# EAGLE library part CD4011 (library RF_LogicIC)
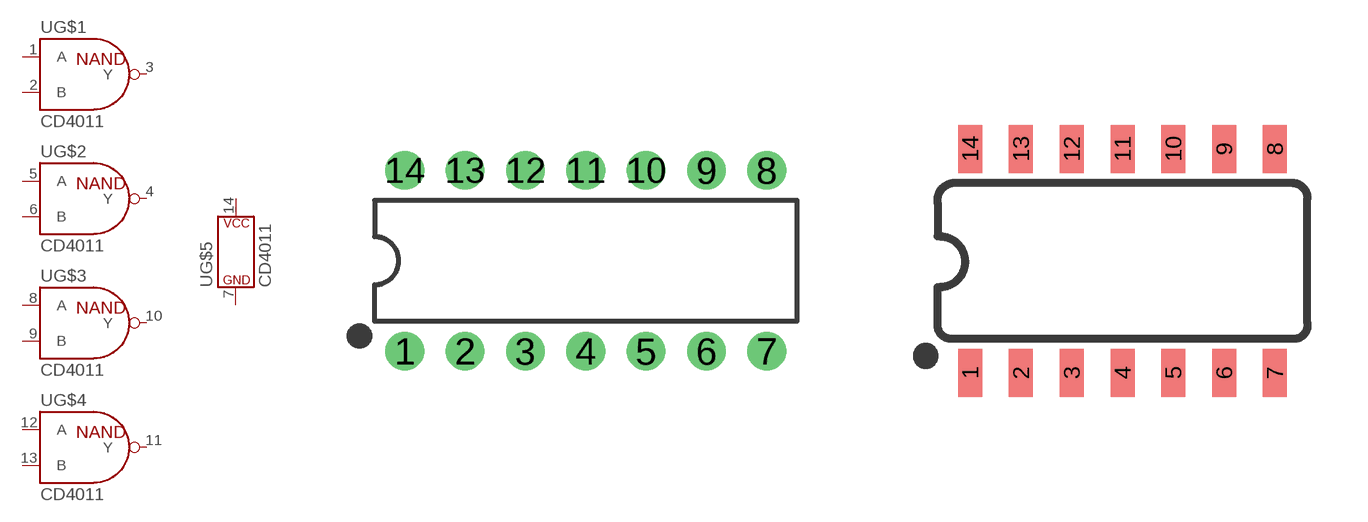
[diagram p2: symbol with the pads of DIP14; footprints DIP14, SO14]

Designator prefix -; gates G$1=GATE_NAND_2 G$2=GATE_NAND_2 G$3=GATE_NAND_2 G$4=GATE_NAND_2 G$5=POWER_CONSORT

## CD4011DIP  [DIP14]
1  G$1:A
2  G$1:B
3  G$1:Y
4  G$2:Y
5  G$2:A
6  G$2:B
7  G$5:GND
8  G$3:A
9  G$3:B
10  G$3:Y
11  G$4:Y
12  G$4:A
13  G$4:B
14  G$5:P$V+

## CD4011SO  [SO14]
Pads as for DIP14

## Footprint DIP14 (pad centres in mm)
Dual In Line Package
drill 0.813 pad 1.626: 1 -8.89,-3.81; 2 -6.35,-3.81; 3 -3.81,-3.81; 4 -1.27,-3.81; 5 1.27,-3.81; 6 3.81,-3.81; 7 6.35,-3.81; 8 6.35,3.81; 9 3.81,3.81; 10 1.27,3.81; 11 -1.27,3.81; 12 -3.81,3.81; 13 -6.35,3.81; 14 -8.89,3.81

## Footprint SO14 (pad centres in mm)
SOIC, 0.15 inch width
smd 0.6 x 1.2: 1 -4.445,-2.8; 2 -3.175,-2.8; 3 -1.905,-2.8; 4 -0.635,-2.8; 5 0.635,-2.8; 6 1.905,-2.8; 7 3.175,-2.8; 8 3.175,2.8; 9 1.905,2.8; 10 0.635,2.8; 11 -0.635,2.8; 12 -1.905,2.8; 13 -3.175,2.8; 14 -4.445,2.8